# EAGLE library part RFID (library Mebius)
Module RFID 125 kHz
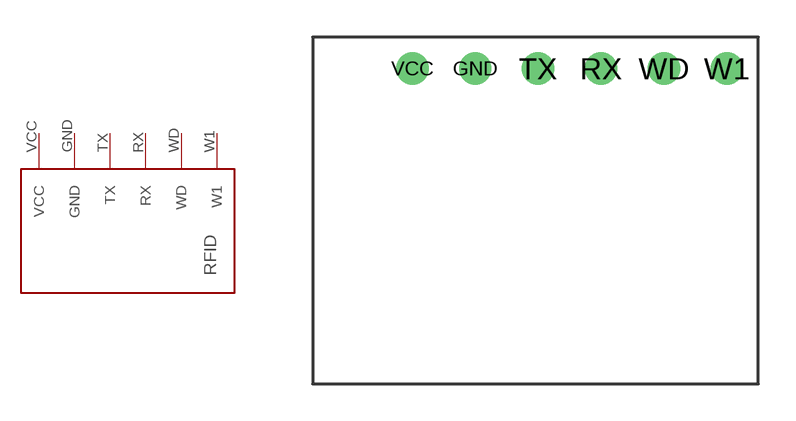
[diagram p0: symbol with the pads of RFID; footprint RFID]

Designator prefix -

## RFID"  [RFID]
GND  GND
RX  RX
TX  TX
VCC  VCC
W1  W1
WD  WD

## Footprint RFID (pad centres in mm)
drill 0.8: GND -2.54,6.35; RX 2.54,6.35; TX 0,6.35; VCC -5.08,6.35; W1 7.62,6.35; WD 5.08,6.35